# EAGLE library part TL072CP (library ic-amplifiers)
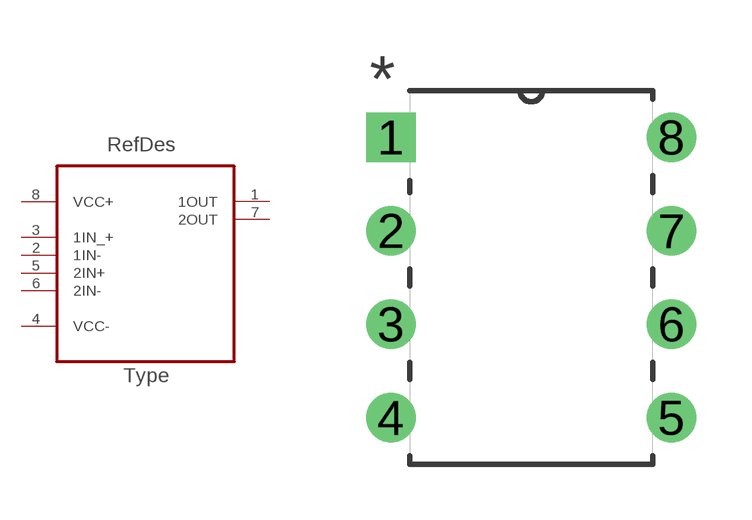
[diagram p0: symbol with the pads of DIP254P762X508-8; footprint DIP254P762X508-8]

Designator prefix U

## TL072CP (DESCRIPTION: OPERATIONAL AMPLIFIER; MPN: TL072CP; OC_FARNELL: 1106015; OC_NEWARK: 60K6988; PACKAGE: PDIP; SUPPLIER: Texas Instruments)  [DIP254P762X508-8]
1  1OUT  out
2  1IN-  in
3  1IN_+  in
4  VCC-  pas
5  2IN+  in
6  2IN-  in
7  2OUT  out
8  VCC+  pwr

## Footprint DIP254P762X508-8 (pad centres in mm)
drill 0.838 square: 1 -7.62,7.62
drill 0.838: 2 -7.62,5.08; 3 -7.62,2.54; 4 -7.62,0; 5 0,0; 6 0,2.54; 7 0,5.08; 8 0,7.62